# Altium schematic symbol library Coil 6.8uH.SchLib: 1 symbol
Pins are listed as number, name and electrical type; pins without a type are passive.

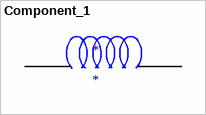
[diagram p0: symbol Component_1]

## Component_1
designator *
footprint MPL-AL6060 (Chip Inductor, 2-Leads, Body 6.60x6.40mm, IPC Medium Density)
pins: 1, 2